# Altium footprint library Jacks.PcbLib: 2 footprints
Each footprint in its own frame and in the unit in brackets; x right, y up, seen from the top. Pads: shape width x height; smd on the part's side, far side on the other; paste and mask are expansions set on the pad; w line width, h text height; cw(c..) or ccw(c..) is an arc to the next point about the centre after c.
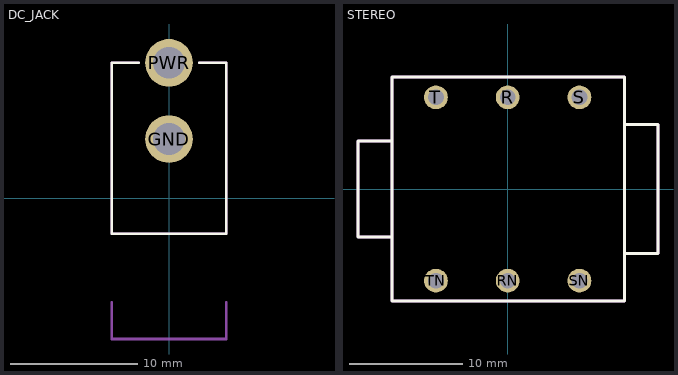
[diagram p0: the footprints below, top view; thin cyan lines are the x and y axes]

## DC_JACK [mm]
pads (2):
  round 3.75 hole 2.5: GND(0,4.652) PWR(0,10.652)
Top Overlay:
  lines w0.203: -2.4,10.652 -4.5,10.652 -4.5,-2.794 4.5,-2.794 4.5,5.252 ; 2.4,10.652 4.5,10.652 4.5,9.952 ; 4.496,5.036 4.496,9.957
Mechanical 2:
  lines w0.203: -2.4,10.652 -4.5,10.652 -4.5,-2.794 4.5,-2.794 4.5,5.252 ; 2.4,10.652 4.5,10.652 4.5,9.952 ; 4.496,5.036 4.496,9.957
Mechanical 18:
  lines w0.203: -4.5,-8.176 -4.5,-11.076 4.5,-11.076 4.5,-8.176
3D body: height 0.25, standoff 0, extent -8.89,5.588 -8.89,5.588
3D body: height 0.25, standoff 0, extent -8.636,5.334 -8.636,5.334
3D body "DC_JACK.step": height 11, standoff -3.5, extent -4.504,-2.856 4.496,11.644

## STEREO [mm]
pads (6):
  round 2.1 hole 1.4: R(0,8.115) RN(0,-8.115) S(6.35,8.115) SN(6.35,-8.115) T(-6.35,8.115) TN(-6.35,-8.115)
Top Overlay:
  lines w0.254: -10.25,-4.25 -13.25,-4.25 -13.25,4.25 -10.25,4.25 ; -10.25,-4.25 -10.25,4.25 ; -10.25,-4.25 -10.25,-9.906 10.35,-9.906 10.35,-5.7 ; -10.25,4.25 -10.25,9.906 10.35,9.906 10.35,5.7 ; 10.35,-5.7 13.3,-5.7 13.3,5.7 10.35,5.7 ; 10.35,-5.7 10.35,5.7
Mechanical 2:
  lines w0.254: -10.25,-4.25 -10.25,4.25 ; -10.25,-4.25 -10.25,-9.906 10.35,-9.906 10.35,-5.7 ; -10.25,-4.25 -13.25,-4.25 -13.25,4.25 -10.25,4.25 ; -10.25,4.25 -10.25,9.906 10.35,9.906 10.35,5.7 ; 10.35,-5.7 10.35,5.7 ; 10.35,-5.7 13.3,-5.7 13.3,5.7 10.35,5.7
3D body "STEREO.STEP": height 15.5, standoff -4, extent -14.275,-9.967 14.275,10.033